# Altium footprint library PocketLab_DMM_EVT0.PcbLib: 33 footprints (part 2 of 3)
Each footprint in its own frame and in the unit in brackets; x right, y up, seen from the top. Pads: shape width x height; smd on the part's side, far side on the other; paste and mask are expansions set on the pad; w line width, h text height; cw(c..) or ccw(c..) is an arc to the next point about the centre after c.
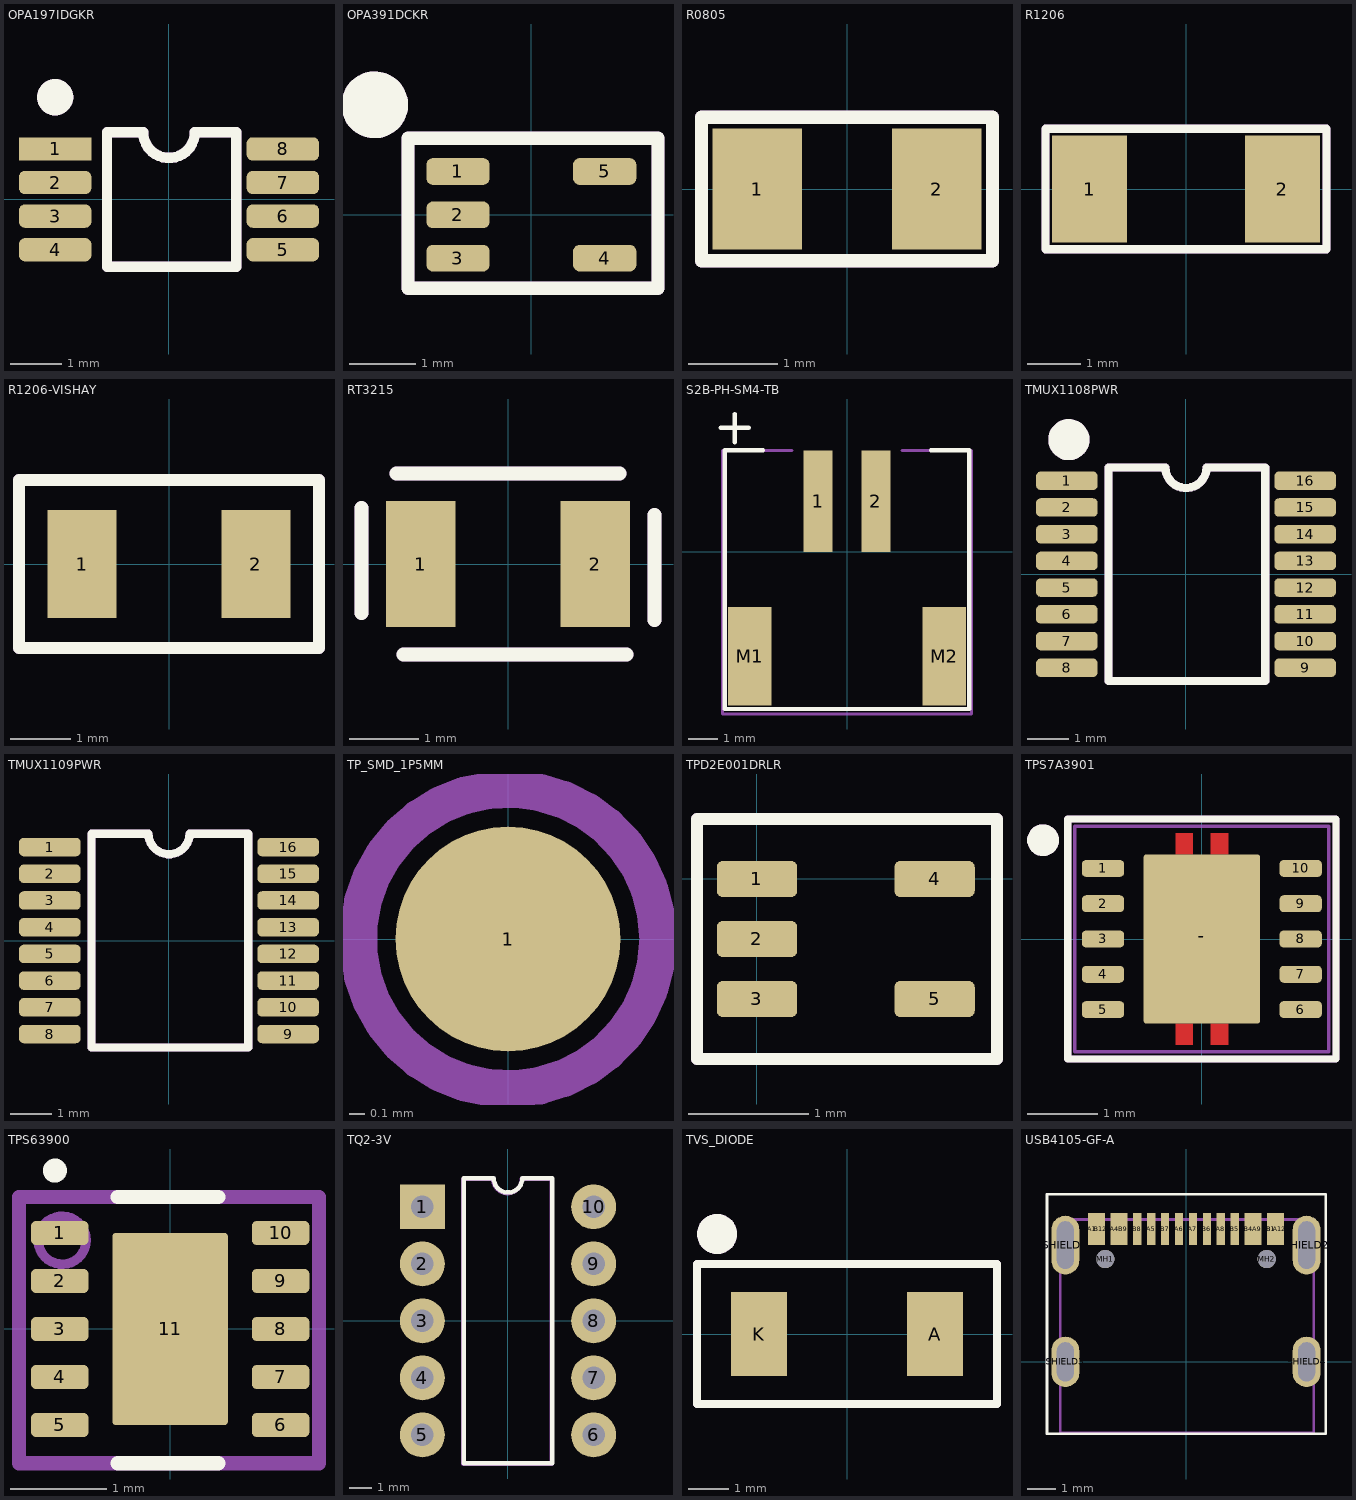
[diagram p1: the footprints below, top view; thin cyan lines are the x and y axes]

## OPA197IDGKR [mm] "IC OPAMP GP 1 CIRCUIT 8VSSOP"
height 1.1
pads (8):
  rect 1.4x0.45 smd mask+0.05: 1(-2.2,0.975)
  rrect50% 1.4x0.45 smd mask+0.05: 2(-2.2,0.325) 3(-2.2,-0.325) 4(-2.2,-0.975) 5(2.2,-0.975) 6(2.2,-0.325) 7(2.2,0.325) 8(2.2,0.975)
Top Overlay:
  circle w0.5: c-2.2,1.975 r0.1
  lines w0.2: -1.2,-1.3 1.3,-1.3 1.3,1.3 0.5,1.3 cw(c0,1.3) -0.5,1.3 -1.2,1.3 -1.2,-1.3
Top Assembly:
  circle w0.5: c-2.2,1.975 r0.1
  lines w0.2: -1.2,-1.3 1.3,-1.3 1.3,1.3 0.5,1.3 cw(c0,1.3) -0.5,1.3 -1.2,1.3 -1.2,-1.3
  text ".Designator" at -3.499,-0.233 h0.7
3D body "DGK0008A.stp": height 1.1, standoff 0, extent -2.451,-1.499 2.451,1.499

## OPA391DCKR [mm]
pads (5):
  rrect50% 0.95x0.4 smd: 1(-1.1,0.65) 2(-1.1,0) 3(-1.1,-0.65) 4(1.1,-0.65) 5(1.1,0.65)
Top Overlay:
  circle w0.5: c-2.35,1.65 r0.25
  lines w0.2: -0.012,1.15 -1.85,1.15 -1.85,-1.1 1.9,-1.1 1.9,1.15 0.012,1.15
Top Assembly:
  circle w0.5: c-2.35,1.65 r0.25
  lines w0.2: -0.012,1.15 -1.85,1.15 -1.85,-1.1 1.9,-1.1 1.9,1.15 0.012,1.15
  text ".Designator" at -3.499,-0.233 h0.7
3D body "DCK0005A_OPA391.stp": height 1, standoff 0, extent -1.05,-1 1.05,1

## R0805 [mm]
height 0.55
pads (2):
  rect 1x1.35 smd: 1(-1,0) 2(1,0)
Top Overlay:
  lines w0.15: -1.625,-0.8 -1.625,0.8 1.625,0.8 1.625,-0.8 -1.625,-0.8
Top Assembly:
  lines w0.15: -1.625,-0.8 -1.625,0.8 1.625,0.8 1.625,-0.8 -1.625,-0.8
  text ".Designator" at -3.499,-0.233 h0.7
3D body "RNCF0805_stp.stp": height 0.56, standoff 0.01, extent -0.95,-0.65 1.05,0.6

## R1206 [mm]
height 0.55
pads (2):
  rect 1.4x2 smd: 1(-1.8,0) 2(1.8,0)
Top Overlay:
  lines w0.15: -2.625,-1.125 2.625,-1.125 2.625,1.125 -2.625,1.125 -2.625,-1.125
Top Assembly:
  lines w0.15: -2.625,-1.125 2.625,-1.125 2.625,1.125 -2.625,1.125 -2.625,-1.125
  text ".Designator" at -3.499,-0.233 h0.7
3D body "RES_RGV3216_SUS.step": height 0.56, standoff 0, extent -1.702,-0.927 1.702,0.927

## R1206-VISHAY [mm]
pads (2):
  rect 1.15x1.8 smd: 1(-1.45,0) 2(1.45,0)
Top Overlay:
  lines w0.2: -2.5,-1.397 2.5,-1.397 2.5,1.397 -2.5,1.397 -2.5,-1.397
Top Assembly:
  lines w0.2: -2.5,-1.397 -2.5,1.397 2.5,1.397 2.5,-1.397 -2.5,-1.397
  text ".Designator" at -3.499,-0.233 h0.7
3D body "RES_MCA1206_VIS.step": height 0.66, standoff 0, extent -1.651,-0.876 1.651,0.876

## RT3215 [mm]
height 0.9
pads (2):
  rect 1x1.8 smd: 1(-1.25,0) 2(1.25,0)
Top Overlay:
  lines w0.2: -2.1,-0.7 -2.1,0.8 ; -1.6,1.3 1.6,1.3 ; -1.5,-1.3 1.7,-1.3 ; 2.1,-0.8 2.1,0.7
Top Assembly:
  lines w0.2: -2.1,-0.7 -2.1,0.8 ; -1.6,1.3 1.6,1.3 ; -1.5,-1.3 1.7,-1.3 ; 2.1,-0.8 2.1,0.7
  text ".Designator" at -3.499,-0.233 h0.7

## S2B-PH-SM4-TB [mm] "SMD-JST"
height 5.5
pads (4):
  rect 1x3.5 smd paste+0: 1(-1,1.75) 2(1,1.75)
  rect 1.5x3.4 smd paste-2539.97: M1(-3.35,-3.6) M2(3.35,-3.6)
Top Overlay:
  lines w0.15: -4.361,4.275 -3.386,4.275 ; -4.05,3.5 -2.9,3.5 -4.225,3.5 -4.225,-5.425 4.05,-5.425 4.225,-5.425 4.225,3.5 ; -3.875,3.78 -3.875,4.755 ; 4.225,3.5 2.9,3.5 4.225,3.5
Top Paste:
  rectangle: -4.1,-5.3 -2.6,-1.9
  rectangle: 2.6,-5.3 4.1,-1.9
Top Assembly:
  lines w0.1: -1.9,3.5 -4.3,3.5 -4.3,-5.6 4.3,-5.6 4.3,3.5 1.9,3.5
  text ".Designator" at -4.998,-1.333 h1
3D body "S2B-PH-SM4-TB.STEP": height 5.42, standoff -0.18, extent -3.9,-5.3 4,3.3

## TMUX1108PWR [mm]
pads (16):
  rrect50% 1.5x0.45 smd: 1(-2.9,2.275) 2(-2.9,1.625) 3(-2.9,0.975) 4(-2.9,0.325) 5(-2.9,-0.325) 6(-2.9,-0.975) 7(-2.9,-1.625) 8(-2.9,-2.275) 9(2.9,-2.275) 10(2.9,-1.625) 11(2.9,-0.975) 12(2.9,-0.325) 13(2.9,0.325) 14(2.9,0.975) 15(2.9,1.625) 16(2.9,2.275)
Top Overlay:
  circle w0.5: c-2.85,3.275 r0.25
  lines w0.2: -1.884,-2.6 1.926,-2.6 1.926,2.6 0.5,2.6 cw(c0,2.6) -0.5,2.6 -1.884,2.6 -1.884,-2.6
Top Assembly:
  circle w0.5: c-2.85,3.275 r0.25
  lines w0.2: -1.884,-2.6 1.926,-2.6 1.926,2.6 0.5,2.6 cw(c0,2.6) -0.5,2.6 -1.884,2.6 -1.884,-2.6
  text ".Designator" at 0.208,-3.499 h0.7
3D body "PW0016A.stp": height 1.13, standoff 0, extent -3.2,-2.5 3.2,2.5

## TMUX1109PWR [mm]
height 1.2
pads (16):
  rrect50% 1.5x0.45 smd mask+0.05: 1(-2.9,2.275) 2(-2.9,1.625) 3(-2.9,0.975) 4(-2.9,0.325) 5(-2.9,-0.325) 6(-2.9,-0.975) 7(-2.9,-1.625) 8(-2.9,-2.275) 9(2.9,-2.275) 10(2.9,-1.625) 11(2.9,-0.975) 12(2.9,-0.325) 13(2.9,0.325) 14(2.9,0.975) 15(2.9,1.625) 16(2.9,2.275)
Top Overlay:
  lines w0.2: -1.884,-2.6 -1.884,2.6 -0.5,2.6 ccw(c0,2.6) 0.5,2.6 1.926,2.6 1.926,-2.6 -1.884,-2.6
Top Assembly:
  lines w0.2: -1.884,-2.6 -1.884,2.6 -0.5,2.6 ccw(c0,2.6) 0.5,2.6 1.926,2.6 1.926,-2.6 -1.884,-2.6
  text ".Designator" at 0.208,-3.499 h0.7
3D body "PW0016A.stp": height 1.13, standoff 0, extent -3.2,-2.5 3.2,2.5

## TP_SMD_1P5MM [mm] "Single pad test point"
pads (1):
  round 1.5 smd paste-2539.97 mask+0.1: 1(0,0)
Top Overlay:
  text ".Designator" at -3.999,1.733 h0.8
Top Assembly:
  circle w0.25: c0,0 r1
  text ".Designator" at -3.999,1.733 h0.8
  text ".Designator" at -3.999,1.733 h0.8
Top Courtyard:
  circle w0.25: c0,0 r1

## TPD2E001DRLR [mm]
height 0.6
pads (5):
  rrect33% 0.67x0.3 smd mask+0.05: 1(0,0) 2(0,-0.5) 3(0,-1) 4(1.48,0) 5(1.48,-1)
Top Overlay:
  lines w0.1: -0.5,-1.5 -0.5,0.5 2,0.5 2,-1.5 -0.5,-1.5
Top Assembly:
  lines w0.1: -0.5,-1.5 -0.5,0.5 2,0.5 2,-1.5 -0.5,-1.5
  text ".Designator" at -2.749,-0.733 h0.7
3D body "TPD2E001DRLR.stp": height 0.6, standoff 0, extent -0.05,-1.283 1.55,0.283

## TPS7A3901 [mm]
pads (11):
  rrect50% 0.6x0.24 smd: 1(-1.4,1) 2(-1.4,0.5) 3(-1.4,0) 4(-1.4,-0.5) 5(-1.4,-1) 6(1.4,-1) 7(1.4,-0.5) 8(1.4,0) 9(1.4,0.5) 10(1.4,1)
  rrect5% 1.65x2.4 smd paste-2539.97: -(0,0)
Top Layer:
  rectangle: 0.125,1.2 0.375,1.5
  rectangle: 0.125,-1.5 0.375,-1.2
  rectangle: -0.375,-1.5 -0.125,-1.2
  rectangle: -0.375,1.2 -0.125,1.5
Top Overlay:
  circle w0.25: c-2.25,1.4 r0.1
  lines w0.1: -1.9,-1.7 -1.9,1.7 1.9,1.7 1.9,-1.7 -1.9,-1.7
Top Paste:
  rectangle: 0.125,-1.5 0.379,-1.25
  rectangle: -0.375,-1.5 -0.121,-1.25
  rectangle: 0.125,1.25 0.379,1.5
  rectangle: -0.379,1.25 -0.125,1.5
  region: -0.75,1.18 0.75,1.18 0.75,0.12 -0.75,0.12
  region: -0.75,-0.12 0.75,-0.12 0.75,-1.18 -0.75,-1.18
Top Assembly:
  circle w0.25: c-2.25,1.4 r0.1
  lines w0.1: -1.9,-1.7 -1.9,1.7 1.9,1.7 1.9,-1.7 -1.9,-1.7
  text ".Designator" at -3.499,-0.233 h0.7
Top Courtyard:
  lines w0.05: -1.8,-1.6 -1.8,1.6 1.8,1.6 1.8,-1.6 -1.8,-1.6
Top Component Center:
  lines w0.1: -0.5,0 0.5,0 ; 0,-0.5 0,0.5
3D body "TPS7A3901DSCR.step": height 0.81, standoff 0.01, extent -1.5,-1.5 1.5,1.5

## TPS63900 [mm] "IC REG BUCK BST PROG 400MA 10SON"
height 0.8
pads (11):
  rrect40% 0.6x0.25 smd mask+0.05: 1(-1.15,1) 2(-1.15,0.5) 3(-1.15,0) 4(-1.15,-0.5) 5(-1.15,-1) 6(1.15,-1) 7(1.15,-0.5) 8(1.15,0) 9(1.15,0.5) 10(1.15,1)
  rrect5% 1.2x2 smd paste-2539.97 mask+0.05: 11(0,0)
Top Overlay:
  circle w0.125: c-1.2,1.65 r0.062
  lines w0.15: -0.546,-1.4 0.5,-1.4 ; -0.546,1.375 0.5,1.375
Top Paste:
  region: -0.565,-0.11 0.565,-0.11 0.565,-1 -0.565,-1
  region: -0.565,1 0.565,1 0.565,0.11 -0.565,0.11
Top Assembly:
  circle w0.1: c-1.125,0.925 r0.25
  lines w0.15: -1.575,-1.4 1.55,-1.4 1.55,1.375 -1.575,1.375 -1.575,-1.4
  text ".Designator" at -3.499,-0.233 h0.7
Top Courtyard:
  lines w0.05: -1.525,-1.375 1.55,-1.375 1.55,1.364 -1.525,1.364 -1.525,0.504 -1.525,-0.515 -1.525,-1.375
Top Component Center:
  lines w0.1: -0.5,0 0.5,0 ; 0,-0.5 0,0.5
3D body "TPS63900.step": height 0.8, standoff 0, extent -1.3,-1.25 1.3,1.25

## TQ2-3V [mm]
height 5
pads (10):
  rect 2x2 hole 1: 1(-3.81,5.08)
  round 2 hole 1: 2(-3.81,2.54) 3(-3.81,0) 4(-3.81,-2.54) 5(-3.81,-5.08) 6(3.81,-5.08) 7(3.81,-2.54) 8(3.81,0) 9(3.81,2.54) 10(3.81,5.08)
Top Overlay:
  lines w0.2: -1.975,-6.35 -1.975,6.35 -0.635,6.35 ccw(c0,6.35) 0.635,6.35 1.975,6.35 1.975,-6.35 -1.975,-6.35
Top Assembly:
  lines w0.2: -2,-6.375 -2,6.325 -0.66,6.325 ccw(c-0.025,6.325) 0.61,6.325 1.95,6.325 1.95,-6.375 -2,-6.375
  text ".Designator" at 0.233,-3.499 h0.7
3D body "RELAY_TQ2_2C_PAN.step": height 5, standoff -0.25, extent -4.496,-6.995 4.496,7

## TVS_DIODE [mm]
pads (2):
  rect 1.4x2.1 smd: A(2.2,0) K(-2.2,0)
Top Overlay:
  circle w0.5: c-3.25,2.5 r0.25
  lines w0.2: -3.75,-1.75 -3.75,1.75 3.75,1.75 3.75,-1.75 -3.75,-1.75
Top Assembly:
  circle w0.5: c-3.25,2.5 r0.25
  lines w0.2: -3.75,-1.75 -3.75,1.75 3.75,1.75 3.75,-1.75 -3.75,-1.75
  text ".Designator" at -3.499,-0.233 h0.7

## USB4105-GF-A [mm] "USB2.0 TYP C 16P SMD RA"
height 3.31
pads (23):
  rect 0.3x1.15 smd mask+0.05: A1(-3.35,4.755) A4(-2.55,4.755) A5(-1.25,4.755) A6(-0.25,4.755) A7(0.25,4.755) A8(1.25,4.755) A9(2.55,4.755) A12(3.35,4.755) B1(3.05,4.755) B1(3.05,4.755) B4(2.25,4.755) B5(1.75,4.755) B6(0.75,4.755) B7(-0.75,4.755) B8(-1.75,4.755) B9(-2.25,4.755) B12(-3.05,4.755)
  round 0.65 hole 0.65 unplated paste-2539.97 mask+0.05: MH1(-2.89,3.68) MH2(2.89,3.68)
  oval 1x2.1 hole 0.6 slot 1.7 at 90 deg paste-2539.97 mask+0.05: SHIELD1(-4.32,4.18) SHIELD2(4.32,4.18)
  oval 1x1.8 hole 0.6 slot 1.4 at 90 deg paste-2539.97 mask+0.05: SHIELD3(-4.32,0) SHIELD4(4.32,0)
Top Overlay:
  lines w0.1: -4.975,-2.575 -4.975,6 5,6 5,-2.575 -4.975,-2.575
Mechanical 1:
  lines w0.1: -4.5,-2.55 4.575,-2.55
  text "v PCB Edge v" at -4.107,-2.083 h0.7
Top Assembly:
  lines w0.1: -4.5,-2.55 -4.5,5.1 4.575,5.1 4.575,-2.55 -4.5,-2.55
  text "v PCB Edge v" at -4.107,-2.083 h0.7
  text ".Designator" at -3.499,1.342 h0.7
3D body "USB4105-GF-A.STEP": height 3.17, standoff -1.24, extent -4.445,-2.625 4.495,5.085